# EAGLE library part PREJEZD (library KMZ)
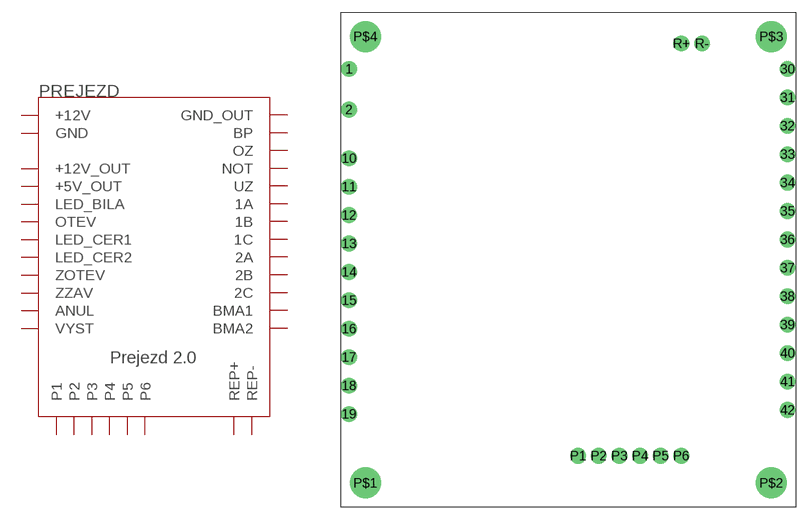
[diagram p1: symbol with the pads of PREJEZD; footprint PREJEZD]

Designator prefix PREJEZD

## PREJEZD  [PREJEZD]
1  +12V  pwr
2  +5V_OUT  pwr
10  +12V_OUT  pwr
11  1A  oc
12  1B  oc
13  1C  oc
14  2A  oc
15  2B  oc
16  2C  oc
17  ANUL  oc
18  BMA1  oc
19  BMA2  oc
30  BP  oc
31  GND  pwr
32  GND_OUT  pwr
33  LED_BILA  oc
34  LED_CER1  oc
35  LED_CER2  oc
36  NOT  oc
37  OTEV  oc
38  OZ  oc
39  P1  pas
40  P2  pas
41  P3  pas
42  P4  pas
P1  P5  pas
P2  P6  pas
P3  REP+  pas
P4  REP-  pas
P5  UZ  oc
P6  VYST  oc
R+  ZOTEV  oc
R-  ZZAV  oc

## Footprint PREJEZD (pad centres in mm)
drill 0.6 pad 1.93 round: 1 -25.67,20.98; 2 -25.67,15.98; 10 -25.67,9.98; 11 -25.67,6.48; 12 -25.67,2.98; 13 -25.67,-0.52; 14 -25.67,-4.02; 15 -25.67,-7.52; 16 -25.67,-11.02; 17 -25.67,-14.52; 18 -25.67,-18.02; 19 -25.67,-21.52; 30 28.33,20.98; 31 28.33,17.48; 32 28.33,13.98; 33 28.33,10.48; 34 28.33,6.98; 35 28.33,3.48; 36 28.33,-0.02; 37 28.33,-3.52; 38 28.33,-7.02; 39 28.33,-10.52; 40 28.33,-14.02; 41 28.33,-17.52; 42 28.33,-21.02; P1 2.54,-26.67; P2 5.08,-26.67; P3 7.62,-26.67; P4 10.16,-26.67; P5 12.7,-26.67; P6 15.24,-26.67; R+ 15.24,24.13; R- 17.78,24.13
drill 0.6 pad 3.81 round: P$1 -23.67,-30.02; P$2 26.33,-30.02; P$3 26.33,24.98; P$4 -23.67,24.98